# EAGLE library part JST_PH_6 (library stepOSP)
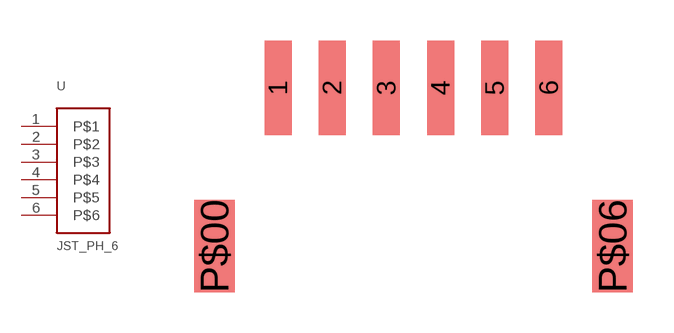
[diagram p1: symbol with the pads of PH_CON_6; footprint PH_CON_6]

Designator prefix -

## JST_PH_6  [PH_CON_6]
1  P$1
2  P$2
3  P$3
4  P$4
5  P$5
6  P$6

## Footprint PH_CON_6 (pad centres in mm)
smd 1 x 3.5: 1 -5,7.45; 2 -3,7.45; 3 -1,7.45; 4 1,7.45; 5 3,7.45; 6 5,7.45
smd 1.5 x 3.4: P$00 -7.35,1.6; P$06 7.35,1.6